# Altium integrated library Linear Technology PMIC-Switching Reg LTC1174-LTC3901.IntLib: 2647 symbols (part 58 of 310)
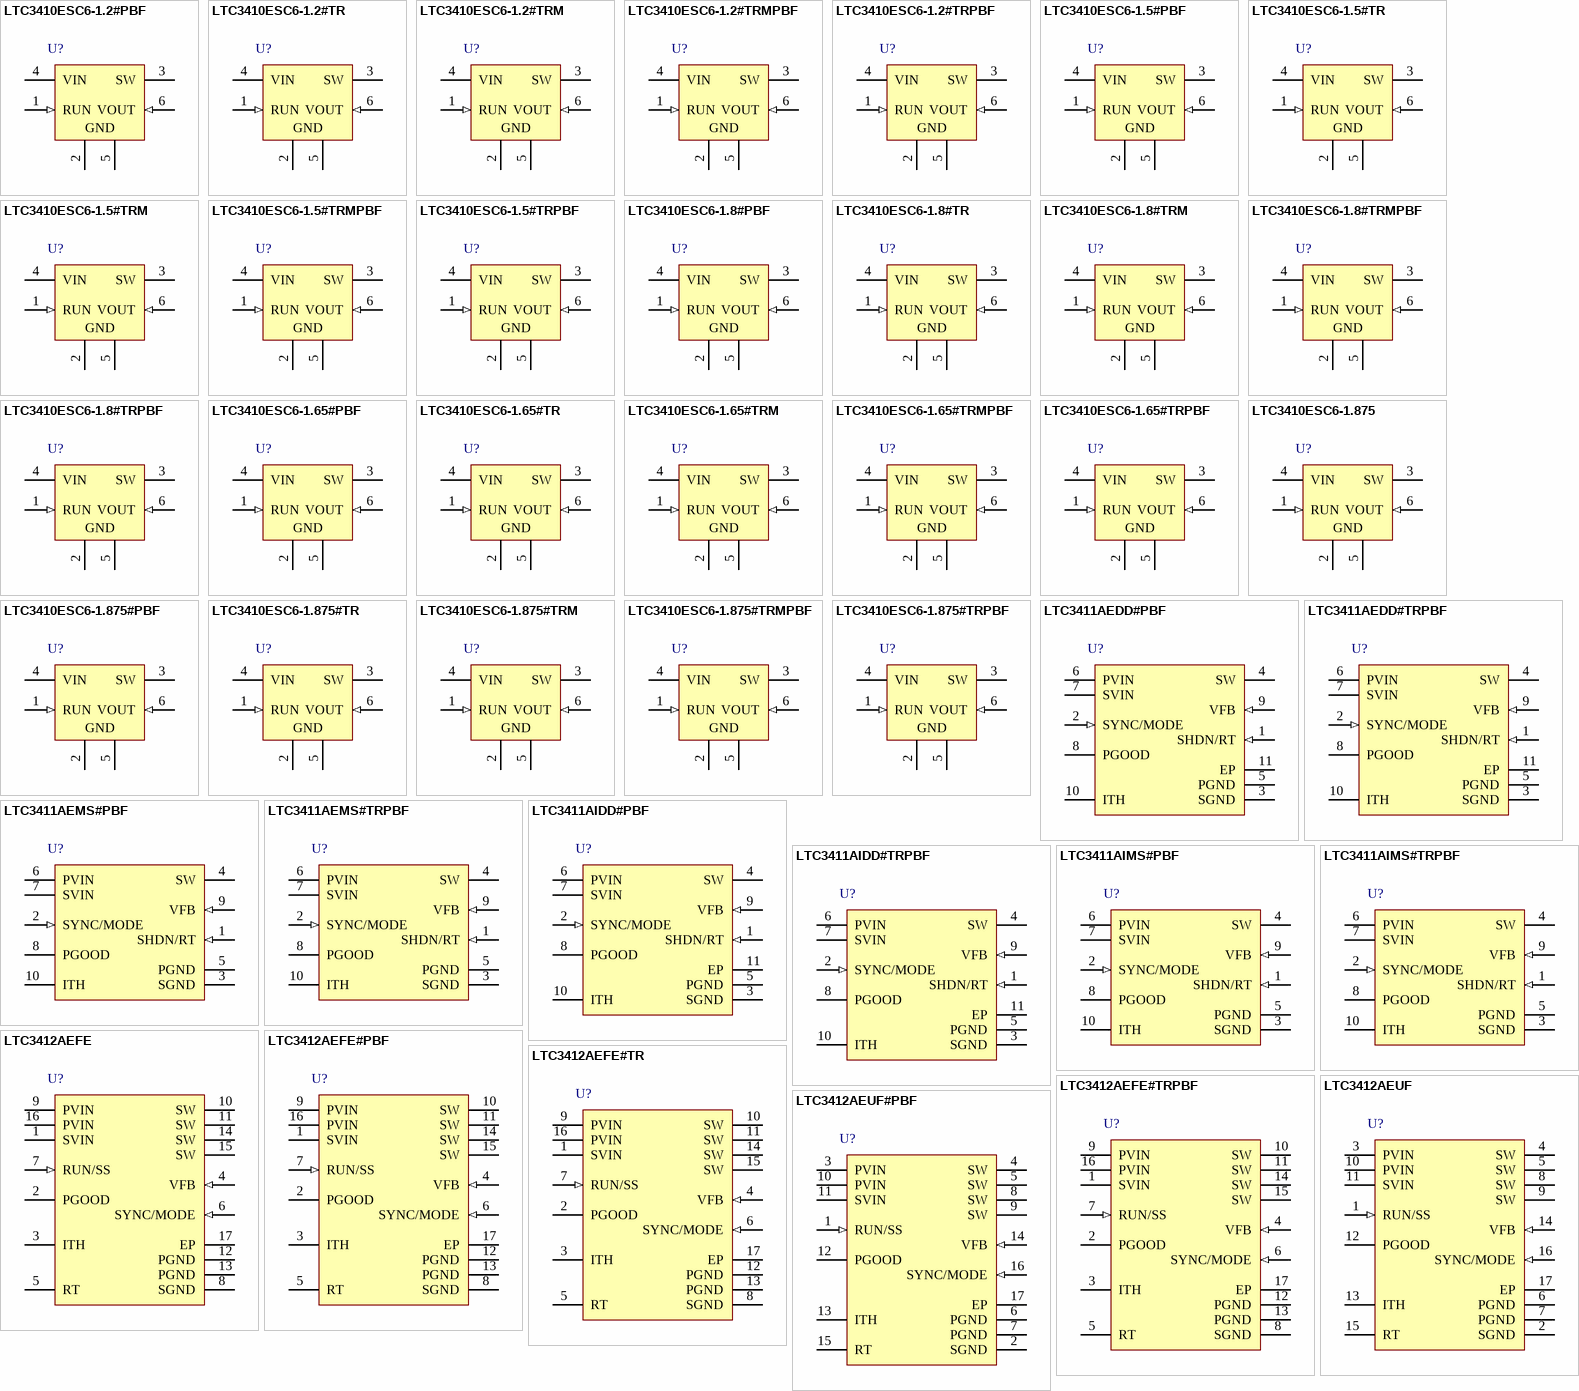
[diagram p249: symbols LTC3410ESC6-1.2#PBF to LTC3412AEUF#PBF]

## LTC3410ESC6-1.2#TR
designator U?
2.25 MHz, 300 mA Synchronous Step-Down Regulator, 6-pin SOT23 (SC6-6), -40 to 85 degC, Tape and Reel; Manufacturer: Linear Technology; PartNumber: LTC3410ESC6-1.2#TR; Number of Outputs: 1; PackageReference: SC6-6; PackageDescription: 6-Pin Plastic SC70, Body 2 x 1.25 mm, Pitch 0.65 mm; RoHS: FALSE; Code_JEDEC: MO-203
footprint LT-SC6-6-SC70_N (SOT23, 6-Leads, Body 2.2x1.35mm, Pitch 0.65mm, IPC Medium Density)
footprint LT-SC6-6-SC70_L (SOT23, 6-Leads, Body 2.2x1.35mm, Pitch 0.65mm, IPC High Density)
footprint LT-SC6-6-SC70_M (SOT23, 6-Leads, Body 2.2x1.35mm, Pitch 0.65mm, IPC Low Density)
pins: 1 RUN (in) "Run Control Input. Forcing this pin above 1.5V enables the part. Forcing this pin below 0.3V shuts down the device. In shutdown, all functions are disabled drawing <1uA supply current. Do not leave RUN floating.", 2 GND (power) "Ground Pin.", 3 SW (power) "Switch Node Connection to Inductor. This pin connects to the drains of the internal main and synchronous power MOSFET switches.", 4 VIN (power) "Main Supply Pin. Must be closely decoupled to GND, Pin 2, with a 2.2uF or greater ceramic capacitor.", 5 GND (power) "Ground Pin.", 6 VOUT (in) "Output Voltage Feedback Pin."

## LTC3410ESC6-1.2#TRM
designator U?
2.25 MHz, 300 mA Synchronous Step-Down Regulator, 6-pin SOT23 (SC6-6), -40 to 85 degC, Mini Tape and Reel; Manufacturer: Linear Technology; PartNumber: LTC3410ESC6-1.2#TRM; Number of Outputs: 1; PackageReference: SC6-6; PackageDescription: 6-Pin Plastic SC70, Body 2 x 1.25 mm, Pitch 0.65 mm; RoHS: FALSE; Code_JEDEC: MO-203
footprint LT-SC6-6-SC70_N (SOT23, 6-Leads, Body 2.2x1.35mm, Pitch 0.65mm, IPC Medium Density)
footprint LT-SC6-6-SC70_L (SOT23, 6-Leads, Body 2.2x1.35mm, Pitch 0.65mm, IPC High Density)
footprint LT-SC6-6-SC70_M (SOT23, 6-Leads, Body 2.2x1.35mm, Pitch 0.65mm, IPC Low Density)
pins: 1 RUN (in) "Run Control Input. Forcing this pin above 1.5V enables the part. Forcing this pin below 0.3V shuts down the device. In shutdown, all functions are disabled drawing <1uA supply current. Do not leave RUN floating.", 2 GND (power) "Ground Pin.", 3 SW (power) "Switch Node Connection to Inductor. This pin connects to the drains of the internal main and synchronous power MOSFET switches.", 4 VIN (power) "Main Supply Pin. Must be closely decoupled to GND, Pin 2, with a 2.2uF or greater ceramic capacitor.", 5 GND (power) "Ground Pin.", 6 VOUT (in) "Output Voltage Feedback Pin."

## LTC3410ESC6-1.2#TRMPBF
designator U?
2.25 MHz, 300 mA Synchronous Step-Down Regulator, 6-pin SOT23 (SC6-6), -40 to 85 degC, Pb-Free, Mini Tape and Reel; Manufacturer: Linear Technology; PartNumber: LTC3410ESC6-1.2#TRMPBF; Number of Outputs: 1; PackageReference: SC6-6; PackageDescription: 6-Pin Plastic SC70, Body 2 x 1.25 mm, Pitch 0.65 mm; Supplier 1: Digi-Key; Supplier Part Number 1: LTC3410ESC6-1.2#TRMPBF-ND; RoHS: TRUE; Code_JEDEC: MO-203
footprint LT-SC6-6-SC70_N (SOT23, 6-Leads, Body 2.2x1.35mm, Pitch 0.65mm, IPC Medium Density)
footprint LT-SC6-6-SC70_L (SOT23, 6-Leads, Body 2.2x1.35mm, Pitch 0.65mm, IPC High Density)
footprint LT-SC6-6-SC70_M (SOT23, 6-Leads, Body 2.2x1.35mm, Pitch 0.65mm, IPC Low Density)
pins: 1 RUN (in) "Run Control Input. Forcing this pin above 1.5V enables the part. Forcing this pin below 0.3V shuts down the device. In shutdown, all functions are disabled drawing <1uA supply current. Do not leave RUN floating.", 2 GND (power) "Ground Pin.", 3 SW (power) "Switch Node Connection to Inductor. This pin connects to the drains of the internal main and synchronous power MOSFET switches.", 4 VIN (power) "Main Supply Pin. Must be closely decoupled to GND, Pin 2, with a 2.2uF or greater ceramic capacitor.", 5 GND (power) "Ground Pin.", 6 VOUT (in) "Output Voltage Feedback Pin."

## LTC3410ESC6-1.2#TRPBF
designator U?
2.25 MHz, 300 mA Synchronous Step-Down Regulator, 6-pin SOT23 (SC6-6), -40 to 85 degC, Pb-Free, Tape and Reel; Manufacturer: Linear Technology; PartNumber: LTC3410ESC6-1.2#TRPBF; Number of Outputs: 1; PackageReference: SC6-6; PackageDescription: 6-Pin Plastic SC70, Body 2 x 1.25 mm, Pitch 0.65 mm; Supplier 1: Digi-Key; Supplier Part Number 1: LTC3410ESC6-1.2#TRPBF-ND; RoHS: TRUE; Code_JEDEC: MO-203
footprint LT-SC6-6-SC70_N (SOT23, 6-Leads, Body 2.2x1.35mm, Pitch 0.65mm, IPC Medium Density)
footprint LT-SC6-6-SC70_L (SOT23, 6-Leads, Body 2.2x1.35mm, Pitch 0.65mm, IPC High Density)
footprint LT-SC6-6-SC70_M (SOT23, 6-Leads, Body 2.2x1.35mm, Pitch 0.65mm, IPC Low Density)
pins: 1 RUN (in) "Run Control Input. Forcing this pin above 1.5V enables the part. Forcing this pin below 0.3V shuts down the device. In shutdown, all functions are disabled drawing <1uA supply current. Do not leave RUN floating.", 2 GND (power) "Ground Pin.", 3 SW (power) "Switch Node Connection to Inductor. This pin connects to the drains of the internal main and synchronous power MOSFET switches.", 4 VIN (power) "Main Supply Pin. Must be closely decoupled to GND, Pin 2, with a 2.2uF or greater ceramic capacitor.", 5 GND (power) "Ground Pin.", 6 VOUT (in) "Output Voltage Feedback Pin."

## LTC3410ESC6-1.5#PBF
designator U?
2.25 MHz, 300 mA Synchronous Step-Down Regulator, 6-pin SOT23 (SC6-6), -40 to 85 degC, Pb-Free; Manufacturer: Linear Technology; PartNumber: LTC3410ESC6-1.5#PBF; Number of Outputs: 1; PackageReference: SC6-6; PackageDescription: 6-Pin Plastic SC70, Body 2 x 1.25 mm, Pitch 0.65 mm; RoHS: TRUE; Code_JEDEC: MO-203
footprint LT-SC6-6-SC70_N (SOT23, 6-Leads, Body 2.2x1.35mm, Pitch 0.65mm, IPC Medium Density)
footprint LT-SC6-6-SC70_L (SOT23, 6-Leads, Body 2.2x1.35mm, Pitch 0.65mm, IPC High Density)
footprint LT-SC6-6-SC70_M (SOT23, 6-Leads, Body 2.2x1.35mm, Pitch 0.65mm, IPC Low Density)
pins: 1 RUN (in) "Run Control Input. Forcing this pin above 1.5V enables the part. Forcing this pin below 0.3V shuts down the device. In shutdown, all functions are disabled drawing <1uA supply current. Do not leave RUN floating.", 2 GND (power) "Ground Pin.", 3 SW (power) "Switch Node Connection to Inductor. This pin connects to the drains of the internal main and synchronous power MOSFET switches.", 4 VIN (power) "Main Supply Pin. Must be closely decoupled to GND, Pin 2, with a 2.2uF or greater ceramic capacitor.", 5 GND (power) "Ground Pin.", 6 VOUT (in) "Output Voltage Feedback Pin."

## LTC3410ESC6-1.5#TR
designator U?
2.25 MHz, 300 mA Synchronous Step-Down Regulator, 6-pin SOT23 (SC6-6), -40 to 85 degC, Tape and Reel; Manufacturer: Linear Technology; PartNumber: LTC3410ESC6-1.5#TR; Number of Outputs: 1; PackageReference: SC6-6; PackageDescription: 6-Pin Plastic SC70, Body 2 x 1.25 mm, Pitch 0.65 mm; RoHS: FALSE; Code_JEDEC: MO-203
footprint LT-SC6-6-SC70_N (SOT23, 6-Leads, Body 2.2x1.35mm, Pitch 0.65mm, IPC Medium Density)
footprint LT-SC6-6-SC70_L (SOT23, 6-Leads, Body 2.2x1.35mm, Pitch 0.65mm, IPC High Density)
footprint LT-SC6-6-SC70_M (SOT23, 6-Leads, Body 2.2x1.35mm, Pitch 0.65mm, IPC Low Density)
pins: 1 RUN (in) "Run Control Input. Forcing this pin above 1.5V enables the part. Forcing this pin below 0.3V shuts down the device. In shutdown, all functions are disabled drawing <1uA supply current. Do not leave RUN floating.", 2 GND (power) "Ground Pin.", 3 SW (power) "Switch Node Connection to Inductor. This pin connects to the drains of the internal main and synchronous power MOSFET switches.", 4 VIN (power) "Main Supply Pin. Must be closely decoupled to GND, Pin 2, with a 2.2uF or greater ceramic capacitor.", 5 GND (power) "Ground Pin.", 6 VOUT (in) "Output Voltage Feedback Pin."